# Altium integrated library Analog Devices RF IF Timing ICs and Clocks.IntLib: 168 symbols (part 10 of 18)
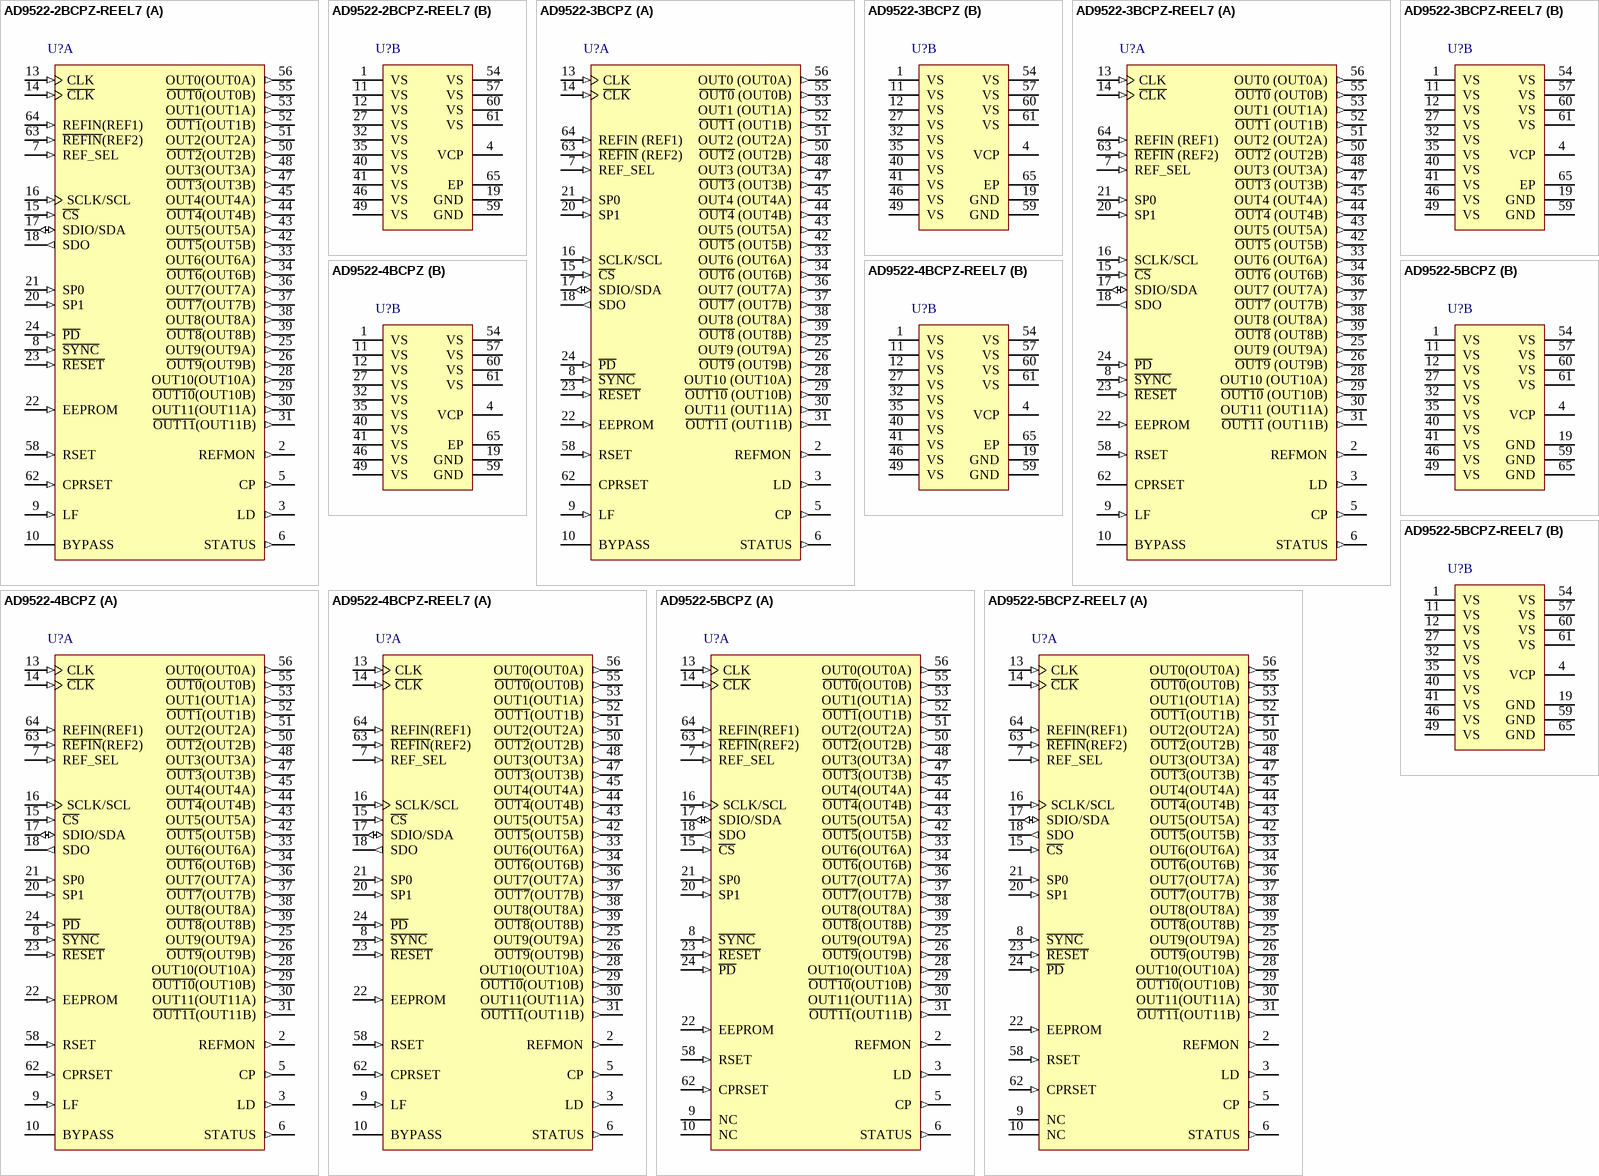
[diagram p24: symbols AD9522-2BCPZ-REEL7 to AD9522-5BCPZ-REEL7]

## AD9522-3BCPZ-REEL7
designator U?
12 LVDS/24 CMOS Output Clock Generator with Integrated 2 GHz VCO, CP-64-4, Pb-Free, 750 Reel; Product Description: Multi-Output Clock Generator; +Supply Voltage (V): 3.3; Inputs: 1; Outputs: 12; Dividers: 5; On-Chip VCO or DCO: Yes; Max f-out (MHz): 2250; Output Logic: CMOS; LVPECL; DatasheetVersion: Rev. 0; PackageVersion: 051007-C; PackageReference: CP-64-4; PackageDescription: 64-Lead Lead Frame Chip Scale Package [LFCSP_VQ]; Code_JEDEC: MO-220-VMMD-4; ComponentLink1Description: Manufacturer URL; ComponentLink1URL: www.analog.com; ComponentLink2Description: Datasheet; ComponentLink2URL: http://www.analog.com/static/imported-files/data_sheets/AD9522-3.pdf; ComponentLink3Description: Package Specification; ComponentLink3URL: http://www.analog.com/static/imported-files/packages/PKG_PDF/LFCSP(CP)/CP_64_4.pdf
footprint ADI-CP-64-4_N (QFN, 64-Leads, Body 9x9mm, Pitch 0.5mm, Thermal Pad 6.2x6.2mm, IPC Medium Density)
footprint ADI-CP-64-4_L (QFN, 64-Leads, Body 9x9mm, Pitch 0.5mm, Thermal Pad 6.2x6.2mm, IPC High Density)
footprint ADI-CP-64-4_M (QFN, 64-Leads, Body 9x9mm, Pitch 0.5mm, Thermal Pad 6.2x6.2mm, IPC Low Density)
part A pins: 2 REFMON (out) "Reference Monitor (Output). This pin has multiple selectable outputs.", 3 LD (out) "Lock Detect (Output). This pin has multiple selectable outputs.", 5 CP (out) "Charge Pump (Output). This pin connects to an external loop filter. This pin can be left unconnected if the PLL is not used.", 6 STATUS (out) "Programmable Status Output.", 7 REF_SEL (in) "Reference Select. It selects REF1 (low) or REF2 (high). This pin has an internal 30 K ohm pull-down resistor.", 8 ~{SYNC} (in) "Manual Synchronizations and Manual Holdover. This pin initiates a manual synchronization and is used for manual holdover. Active low. This pin has an internal 30 K ohm pull-up resistor.", 9 LF (in) "Loop Filter (Input). It connects internally to the VCO control voltage node.", 10 BYPASS "This pin is for bypassing the LDO to ground with a 220 nF capacitor. This pin can be left unconnected if the PLL is not used.", 13 CLK (in) "Along with C\L\K\, this pin is the differential input for the clock distribution section.", 14 ~{CLK} (in) "Along with CLK, this pin is the differential input for the clock distribution section. If a single-ended input is connected to the CLK pin, connect a 0.1 uF bypass capacitor from this pin to ground.", 15 ~{CS} (in) "Serial Control Port Chip Select; Active Low. This pin has an internal 30 K ohm pull-up resistor.", 16 SCLK/SCL (in) "Serial Control Port Clock Signal. This pin has an internal 30 K ohm pull-down resistor in SPI mode but is high impedance in I2C mode.", 17 SDIO/SDA (io) "Serial Control Port Bidirectional Serial Data In/Out.", 18 SDO (out) "Serial Control Port Unidirectional Serial Data Out.", 20 SP1 (in) "Select SPI or I2C as the serial interface port and select the I2C slave address in I2C mode. Three-level logic. This pin is internally biased for the open logic level.", 21 SP0 (in) "Select SPI or I2C as the serial interface port and select the I2C slave address in I2C mode. Three-level logic. This pin is internally biased for the open logic level.", 22 EEPROM (in) "Setting this pin high selects the register values stored in the internal EEPROM to be loaded at reset and/or power-up. [see datasheet]", 23 ~{RESET} (in) "Chip Reset, Active Low. This pin has an internal 30 K ohm pull-up resistor.", 24 ~{PD} (in) "Chip Power-Down, Active Low. This pin has an internal 30 K ohm pull-up resistor.", 25 OUT9 (OUT9A) (out) "Clock Output. This pin can be configured as one side of a differential LVDS outputor as a single-ended CMOS output.", 26 ~{OUT9} (OUT9B) (out) "Clock Output. This pin can be configured as one side of a differential LVDS outputor as a single-ended CMOS output.", 28 OUT10 (OUT10A) (out) "Clock Output. This pin can be configured as one side of a differential LVDS outputor as a single-ended CMOS output.", 29 ~{OUT10} (OUT10B) (out) "Clock Output. This pin can be configured as one side of a differential LVDS outputor as a single-ended CMOS output.", 30 OUT11 (OUT11A) (out) "Clock Output. This pin can be configured as one side of a differential LVDS outputor as a single-ended CMOS output.", 31 ~{OUT11} (OUT11B) (out) "Clock Output. This pin can be configured as one side of a differential LVDS outputor as a single-ended CMOS output.", 33 OUT6 (OUT6A) (out) "Clock Output. This pin can be configured as one side of a differential LVDS outputor as a single-ended CMOS output.", 34 ~{OUT6} (OUT6B) (out) "Clock Output. This pin can be configured as one side of a differential LVDS outputor as a single-ended CMOS output.", 36 OUT7 (OUT7A) (out) "Clock Output. This pin can be configured as one side of a differential LVDS outputor as a single-ended CMOS output.", 37 ~{OUT7} (OUT7B) (out) "Clock Output. This pin can be configured as one side of a differential LVDS outputor as a single-ended CMOS output.", 38 OUT8 (OUT8A) (out) "Clock Output. This pin can be configured as one side of a differential LVDS outputor as a single-ended CMOS output.", 39 ~{OUT8} (OUT8B) (out) "Clock Output. This pin can be configured as one side of a differential LVDS outputor as a single-ended CMOS output.", 42 ~{OUT5} (OUT5B) (out) "Clock Output. This pin can be configured as one side of a differential LVDS outputor as a single-ended CMOS output.", 43 OUT5 (OUT5A) (out) "Clock Output. This pin can be configured as one side of a differential LVDS outputor as a single-ended CMOS output.", 44 ~{OUT4} (OUT4B) (out) "Clock Output. This pin can be configured as one side of a differential LVDS outputor as a single-ended CMOS output.", 45 OUT4 (OUT4A) (out) "Clock Output. This pin can be configured as one side of a differential LVDS outputor as a single-ended CMOS output.", 47 ~{OUT3} (OUT3B) (out) "Clock Output. This pin can be configured as one side of a differential LVDS outputor as a single-ended CMOS output.", 48 OUT3 (OUT3A) (out) "Clock Output. This pin can be configured as one side of a differential LVDS outputor as a single-ended CMOS output.", 50 ~{OUT2} (OUT2B) (out) "Clock Output. This pin can be configured as one side of a differential LVDS outputor as a single-ended CMOS output.", 51 OUT2 (OUT2A) (out) "Clock Output. This pin can be configured as one side of a differential LVDS outputor as a single-ended CMOS output.", 52 ~{OUT1} (OUT1B) (out) "Clock Output. This pin can be configured as one side of a differential LVDS outputor as a single-ended CMOS output.", 53 OUT1 (OUT1A) (out) "Clock Output. This pin can be configured as one side of a differential LVDS outputor as a single-ended CMOS output.", 55 ~{OUT0} (OUT0B) (out) "Clock Output. This pin can be configured as one side of a differential LVDS outputor as a single-ended CMOS output.", 56 OUT0 (OUT0A) (out) "Clock Output. This pin can be configured as one side of a differential LVDS outputor as a single-ended CMOS output.", 58 RSET (in) "Clock Distribution Current Set Resistor. Connect a 4.12 K ohm resistor from this pin to GND.", 62 CPRSET "Charge Pump Current Set Resistor. Connect a 5.1 K ohm resistor from this pin to GND.This resistor can be omitted if the PLL is not used.", 63 ~{REFIN} (REF2) (in) "Along with REFIN, this is the differential input for the PLL reference. Alternatively, this pin is a single-ended input for REF2.", 64 REFIN (REF1) (in) "Along with REFIN, this is the differential input for the PLL reference. Alternatively, this pin is a single-ended input for REF1."
part B pins: 1 VS (power) "3.3 V Power Pins.", 4 VCP (power) "Power Supply for Charge Pump (CP); VS < VCP < 5.0 V. VCP must still be connected to 3.3 V if the PLL is not used.", 11 VS (power) "3.3 V Power Pins.", 12 VS (power) "3.3 V Power Pins.", 19 GND (power) "Ground Pins.", 27 VS (power) "3.3 V Power Pins.", 32 VS (power) "3.3 V Power Pins.", 35 VS (power) "3.3 V Power Pins.", 40 VS (power) "3.3 V Power Pins.", 41 VS (power) "3.3 V Power Pins.", 46 VS (power) "3.3 V Power Pins.", 49 VS (power) "3.3 V Power Pins.", 54 VS (power) "3.3 V Power Pins.", 57 VS (power) "3.3 V Power Pins.", 59 GND (power) "Ground Pins.", 60 VS (power) "3.3 V Power Pins.", 61 VS (power) "3.3 V Power Pins.", 65 EP (power) "The exposed die pad must be connected to GND."

## AD9522-4BCPZ
designator U?
12 LVDS/24 CMOS Output Clock Generator with Integrated 1.6 GHz VCO, CP-64-4, Pb-Free, 260 Tray; Product Description: Multi-Output Clock Generator; +Supply Voltage (V): 3.3; Inputs: 1; Outputs: 12; Dividers: 5; On-Chip VCO or DCO: Yes; Max f-out (MHz): 1600; Output Logic: CMOS; LVDS; DatasheetVersion: Rev. 0; PackageVersion: 051007-C; PackageReference: CP-64-4; PackageDescription: 64-Lead Lead Frame Chip Scale Package [LFCSP_VQ]; Code_JEDEC: MO-220-VMMD-4; ComponentLink1Description: Manufacturer URL; ComponentLink1URL: www.analog.com; ComponentLink2Description: Datasheet; ComponentLink2URL: http://www.analog.com/static/imported-files/data_sheets/AD9522-4.pdf; ComponentLink3Description: Package Specification; ComponentLink3URL: http://www.analog.com/static/imported-files/packages/PKG_PDF/LFCSP(CP)/CP_64_4.pdf
footprint ADI-CP-64-4_N (QFN, 64-Leads, Body 9x9mm, Pitch 0.5mm, Thermal Pad 6.2x6.2mm, IPC Medium Density)
footprint ADI-CP-64-4_L (QFN, 64-Leads, Body 9x9mm, Pitch 0.5mm, Thermal Pad 6.2x6.2mm, IPC High Density)
footprint ADI-CP-64-4_M (QFN, 64-Leads, Body 9x9mm, Pitch 0.5mm, Thermal Pad 6.2x6.2mm, IPC Low Density)
part A pins: 2 REFMON (out) "Reference Monitor (Output). This pin has multiple selectable outputs", 3 LD (out) "Lock Detect (Output). This pin has multiple selectable outputs.", 5 CP (out) "Charge Pump (Output). This pin connects to an external loop filter. This pin can be left unconnected if the PLL is not used.", 6 STATUS (out) "Programmable Status Output.", 7 REF_SEL (in) "Reference Select. It selects REF1 (low) or REF2 (high). This pin has an internal 30 K ohm pull-down resistor", 8 ~{SYNC} (in) "Manual Synchronizations and Manual Holdover. This pin initiates a manual synchronization and is used for manual holdover. Active low. This pin has an internal 30 K ohm pull-up resistor.", 9 LF (in) "Loop Filter (Input). It connects internally to the VCO control voltage node.", 10 BYPASS "This pin is for bypassing the LDO to ground with a 220 nF capacitor. This pin can be left unconnected if the PLL is not used.", 13 CLK (in) "Along with C\L\K\, this pin is the differential input for the clock distribution section.", 14 ~{CLK} (in) "Along with CLK, this pin is the differential input for the clock distribution section. If a single-ended input is connected to the CLK pin, connect a 0.1 uF bypass capacitor from this pin to ground.", 15 ~{CS} (in) "Serial Control Port Chip Select; Active Low. This pin has an internal 30 K ohm pull-up resistor.", 16 SCLK/SCL (in) "Serial Control Port Clock Signal. This pin has an internal 30 K ohm pull-down resistor in SPI mode but is high impedance in I2C mode", 17 SDIO/SDA (io) "Serial Control Port Bidirectional Serial Data In/Out", 18 SDO (out) "Serial Control Port Unidirectional Serial Data Out.", 20 SP1 (in) "Select SPI or I2C as the serial interface port and select the I2C slave address in I2C mode. Three-level logic. This pin is internally biased for the open logic level.", 21 SP0 (in) "Select SPI or I2C as the serial interface port and select the I2C slave address in I2C mode. Three-level logic. This pin is internally biased for the open logic level.", 22 EEPROM (in) "Setting this pin high selects the register values stored in the internal EEPROM to be loaded at reset and/or power-up. Setting this pin low causes the AD9522 to load the hard-coded default register values at power-up/reset. This pin has an internal 30 oh", 23 ~{RESET} (in) "Chip Reset, Active Low. This pin has an internal 30 K ohm pull-up resistor.", 24 ~{PD} (in) "Chip Power-Down, Active Low. This pin has an internal 30 K ohm pull-up resistor.", 25 OUT9(OUT9A) (out) "Clock Output. This pin can be configured as one side of a differential LVDS outputor as a single-ended CMOS output.", 26 ~{OUT9}(OUT9B) (out) "Clock Output. This pin can be configured as one side of a differential LVDS outputor as a single-ended CMOS output.", 28 OUT10(OUT10A) (out) "Clock Output. This pin can be configured as one side of a differential LVDS outputor as a single-ended CMOS output.", 29 ~{OUT10}(OUT10B) (out) "Clock Output. This pin can be configured as one side of a differential LVDS outputor as a single-ended CMOS output.", 30 OUT11(OUT11A) (out) "Clock Output. This pin can be configured as one side of a differential LVDS outputor as a single-ended CMOS output.", 31 ~{OUT11}(OUT11B) (out) "Clock Output. This pin can be configured as one side of a differential LVDS outputor as a single-ended CMOS output.", 33 OUT6(OUT6A) (out) "Clock Output. This pin can be configured as one side of a differential LVDS outputor as a single-ended CMOS output.", 34 ~{OUT6}(OUT6B) (out) "Clock Output. This pin can be configured as one side of a differential LVDS outputor as a single-ended CMOS output.", 36 OUT7(OUT7A) (out) "Clock Output. This pin can be configured as one side of a differential LVDS outputor as a single-ended CMOS output.", 37 ~{OUT7}(OUT7B) (out) "Clock Output. This pin can be configured as one side of a differential LVDS outputor as a single-ended CMOS output.", 38 OUT8(OUT8A) (out) "Clock Output. This pin can be configured as one side of a differential LVDS outputor as a single-ended CMOS output.", 39 ~{OUT8}(OUT8B) (out) "Clock Output. This pin can be configured as one side of a differential LVDS outputor as a single-ended CMOS output.", 42 ~{OUT5}(OUT5B) (out) "Clock Output. This pin can be configured as one side of a differential LVDS outputor as a single-ended CMOS output.", 43 OUT5(OUT5A) (out) "Clock Output. This pin can be configured as one side of a differential LVDS outputor as a single-ended CMOS output.", 44 ~{OUT4}(OUT4B) (out) "Clock Output. This pin can be configured as one side of a differential LVDS outputor as a single-ended CMOS output.", 45 OUT4(OUT4A) (out) "Clock Output. This pin can be configured as one side of a differential LVDS outputor as a single-ended CMOS output.", 47 ~{OUT3}(OUT3B) (out) "Clock Output. This pin can be configured as one side of a differential LVDS outputor as a single-ended CMOS output.", 48 OUT3(OUT3A) (out) "Clock Output. This pin can be configured as one side of a differential LVDS outputor as a single-ended CMOS output.", 50 ~{OUT2}(OUT2B) (out) "Clock Output. This pin can be configured as one side of a differential LVDS outputor as a single-ended CMOS output.", 51 OUT2(OUT2A) (out) "Clock Output. This pin can be configured as one side of a differential LVDS outputor as a single-ended CMOS output.", 52 ~{OUT1}(OUT1B) (out) "Clock Output. This pin can be configured as one side of a differential LVDS outputor as a single-ended CMOS output.", 53 OUT1(OUT1A) (out) "Clock Output. This pin can be configured as one side of a differential LVDS outputor as a single-ended CMOS output.", 55 ~{OUT0}(OUT0B) (out) "Clock Output. This pin can be configured as one side of a differential LVDS outputor as a single-ended CMOS output.", 56 OUT0(OUT0A) (out) "Clock Output. This pin can be configured as one side of a differential LVDS outputor as a single-ended CMOS output.", 58 RSET (in) "Clock Distribution Current Set Resistor. Connect a 4.12 K ohm resistor from this pin to GND.", 62 CPRSET (in) "Charge Pump Current Set Resistor. Connect a 5.1 K ohm resistor from this pin to GND.This resistor can be omitted if the PLL is not used.", 63 ~{REFIN}(REF2) (in) "Along with REFIN, this is the differential input for the PLL reference. Alternatively, this pin is a single-ended input for REF2.", 64 REFIN(REF1) (in) "Along with R\E\F\I\N\, this is the differential input for the PLL reference. Alternatively, this pin is a single-ended input for REF1."
part B pins: 1 VS (power) "3.3 V Power Pins.", 4 VCP (power) "Power Supply for Charge Pump (CP); VS < VCP < 5.0 V. VCP must still be connected to 3.3 V if the PLL is not used", 11 VS (power) "3.3 V Power Pins.", 12 VS (power) "3.3 V Power Pins.", 19 GND (power) "Ground Pins.", 27 VS (power) "3.3 V Power Pins.", 32 VS (power) "3.3 V Power Pins.", 35 VS (power) "3.3 V Power Pins.", 40 VS (power) "3.3 V Power Pins.", 41 VS (power) "3.3 V Power Pins.", 46 VS (power) "3.3 V Power Pins.", 49 VS (power) "3.3 V Power Pins.", 54 VS (power) "3.3 V Power Pins.", 57 VS (power) "3.3 V Power Pins.", 59 GND (power) "Ground Pins.", 60 VS (power) "3.3 V Power Pins.", 61 VS (power) "3.3 V Power Pins.", 65 EP (power) "The exposed die pad must be connected to GND."

## AD9522-4BCPZ-REEL7
designator U?
12 LVDS/24 CMOS Output Clock Generator with Integrated 1.6 GHz VCO, CP-64-4, Pb-Free, 750 Reel; Product Description: Multi-Output Clock Generator; +Supply Voltage (V): 3.3; Inputs: 1; Outputs: 12; Dividers: 5; On-Chip VCO or DCO: Yes; Max f-out (MHz): 1600; Output Logic: CMOS; LVDS; DatasheetVersion: Rev. 0; PackageVersion: 051007-C; PackageReference: CP-64-4; PackageDescription: 64-Lead Lead Frame Chip Scale Package [LFCSP_VQ]; Code_JEDEC: MO-220-VMMD-4; ComponentLink1Description: Manufacturer URL; ComponentLink1URL: www.analog.com; ComponentLink2Description: Datasheet; ComponentLink2URL: http://www.analog.com/static/imported-files/data_sheets/AD9522-4.pdf; ComponentLink3Description: Package Specification; ComponentLink3URL: http://www.analog.com/static/imported-files/packages/PKG_PDF/LFCSP(CP)/CP_64_4.pdf
footprint ADI-CP-64-4_N (QFN, 64-Leads, Body 9x9mm, Pitch 0.5mm, Thermal Pad 6.2x6.2mm, IPC Medium Density)
footprint ADI-CP-64-4_L (QFN, 64-Leads, Body 9x9mm, Pitch 0.5mm, Thermal Pad 6.2x6.2mm, IPC High Density)
footprint ADI-CP-64-4_M (QFN, 64-Leads, Body 9x9mm, Pitch 0.5mm, Thermal Pad 6.2x6.2mm, IPC Low Density)
part A pins: 2 REFMON (out) "Reference Monitor (Output). This pin has multiple selectable outputs", 3 LD (out) "Lock Detect (Output). This pin has multiple selectable outputs.", 5 CP (out) "Charge Pump (Output). This pin connects to an external loop filter. This pin can be left unconnected if the PLL is not used.", 6 STATUS (out) "Programmable Status Output.", 7 REF_SEL (in) "Reference Select. It selects REF1 (low) or REF2 (high). This pin has an internal 30 K ohm pull-down resistor", 8 ~{SYNC} (in) "Manual Synchronizations and Manual Holdover. This pin initiates a manual synchronization and is used for manual holdover. Active low. This pin has an internal 30 K ohm pull-up resistor.", 9 LF (in) "Loop Filter (Input). It connects internally to the VCO control voltage node.", 10 BYPASS "This pin is for bypassing the LDO to ground with a 220 nF capacitor. This pin can be left unconnected if the PLL is not used.", 13 CLK (in) "Along with C\L\K\, this pin is the differential input for the clock distribution section.", 14 ~{CLK} (in) "Along with CLK, this pin is the differential input for the clock distribution section. If a single-ended input is connected to the CLK pin, connect a 0.1 uF bypass capacitor from this pin to ground.", 15 ~{CS} (in) "Serial Control Port Chip Select; Active Low. This pin has an internal 30 K ohm pull-up resistor.", 16 SCLK/SCL (in) "Serial Control Port Clock Signal. This pin has an internal 30 K ohm pull-down resistor in SPI mode but is high impedance in I2C mode", 17 SDIO/SDA (io) "Serial Control Port Bidirectional Serial Data In/Out", 18 SDO (out) "Serial Control Port Unidirectional Serial Data Out.", 20 SP1 (in) "Select SPI or I2C as the serial interface port and select the I2C slave address in I2C mode. Three-level logic. This pin is internally biased for the open logic level.", 21 SP0 (in) "Select SPI or I2C as the serial interface port and select the I2C slave address in I2C mode. Three-level logic. This pin is internally biased for the open logic level.", 22 EEPROM (in) "Setting this pin high selects the register values stored in the internal EEPROM to be loaded at reset and/or power-up. Setting this pin low causes the AD9522 to load the hard-coded default register values at power-up/reset. This pin has an internal 30 oh", 23 ~{RESET} (in) "Chip Reset, Active Low. This pin has an internal 30 K ohm pull-up resistor.", 24 ~{PD} (in) "Chip Power-Down, Active Low. This pin has an internal 30 K ohm pull-up resistor.", 25 OUT9(OUT9A) (out) "Clock Output. This pin can be configured as one side of a differential LVDS outputor as a single-ended CMOS output.", 26 ~{OUT9}(OUT9B) (out) "Clock Output. This pin can be configured as one side of a differential LVDS outputor as a single-ended CMOS output.", 28 OUT10(OUT10A) (out) "Clock Output. This pin can be configured as one side of a differential LVDS outputor as a single-ended CMOS output.", 29 ~{OUT10}(OUT10B) (out) "Clock Output. This pin can be configured as one side of a differential LVDS outputor as a single-ended CMOS output.", 30 OUT11(OUT11A) (out) "Clock Output. This pin can be configured as one side of a differential LVDS outputor as a single-ended CMOS output.", 31 ~{OUT11}(OUT11B) (out) "Clock Output. This pin can be configured as one side of a differential LVDS outputor as a single-ended CMOS output.", 33 OUT6(OUT6A) (out) "Clock Output. This pin can be configured as one side of a differential LVDS outputor as a single-ended CMOS output.", 34 ~{OUT6}(OUT6B) (out) "Clock Output. This pin can be configured as one side of a differential LVDS outputor as a single-ended CMOS output.", 36 OUT7(OUT7A) (out) "Clock Output. This pin can be configured as one side of a differential LVDS outputor as a single-ended CMOS output.", 37 ~{OUT7}(OUT7B) (out) "Clock Output. This pin can be configured as one side of a differential LVDS outputor as a single-ended CMOS output.", 38 OUT8(OUT8A) (out) "Clock Output. This pin can be configured as one side of a differential LVDS outputor as a single-ended CMOS output.", 39 ~{OUT8}(OUT8B) (out) "Clock Output. This pin can be configured as one side of a differential LVDS outputor as a single-ended CMOS output.", 42 ~{OUT5}(OUT5B) (out) "Clock Output. This pin can be configured as one side of a differential LVDS outputor as a single-ended CMOS output.", 43 OUT5(OUT5A) (out) "Clock Output. This pin can be configured as one side of a differential LVDS outputor as a single-ended CMOS output.", 44 ~{OUT4}(OUT4B) (out) "Clock Output. This pin can be configured as one side of a differential LVDS outputor as a single-ended CMOS output.", 45 OUT4(OUT4A) (out) "Clock Output. This pin can be configured as one side of a differential LVDS outputor as a single-ended CMOS output.", 47 ~{OUT3}(OUT3B) (out) "Clock Output. This pin can be configured as one side of a differential LVDS outputor as a single-ended CMOS output.", 48 OUT3(OUT3A) (out) "Clock Output. This pin can be configured as one side of a differential LVDS outputor as a single-ended CMOS output.", 50 ~{OUT2}(OUT2B) (out) "Clock Output. This pin can be configured as one side of a differential LVDS outputor as a single-ended CMOS output.", 51 OUT2(OUT2A) (out) "Clock Output. This pin can be configured as one side of a differential LVDS outputor as a single-ended CMOS output.", 52 ~{OUT1}(OUT1B) (out) "Clock Output. This pin can be configured as one side of a differential LVDS outputor as a single-ended CMOS output.", 53 OUT1(OUT1A) (out) "Clock Output. This pin can be configured as one side of a differential LVDS outputor as a single-ended CMOS output.", 55 ~{OUT0}(OUT0B) (out) "Clock Output. This pin can be configured as one side of a differential LVDS outputor as a single-ended CMOS output.", 56 OUT0(OUT0A) (out) "Clock Output. This pin can be configured as one side of a differential LVDS outputor as a single-ended CMOS output.", 58 RSET (in) "Clock Distribution Current Set Resistor. Connect a 4.12 K ohm resistor from this pin to GND.", 62 CPRSET (in) "Charge Pump Current Set Resistor. Connect a 5.1 K ohm resistor from this pin to GND.This resistor can be omitted if the PLL is not used.", 63 ~{REFIN}(REF2) (in) "Along with REFIN, this is the differential input for the PLL reference. Alternatively, this pin is a single-ended input for REF2.", 64 REFIN(REF1) (in) "Along with R\E\F\I\N\, this is the differential input for the PLL reference. Alternatively, this pin is a single-ended input for REF1."
part B pins: 1 VS (power) "3.3 V Power Pins.", 4 VCP (power) "Power Supply for Charge Pump (CP); VS < VCP < 5.0 V. VCP must still be connected to 3.3 V if the PLL is not used", 11 VS (power) "3.3 V Power Pins.", 12 VS (power) "3.3 V Power Pins.", 19 GND (power) "Ground Pins.", 27 VS (power) "3.3 V Power Pins.", 32 VS (power) "3.3 V Power Pins.", 35 VS (power) "3.3 V Power Pins.", 40 VS (power) "3.3 V Power Pins.", 41 VS (power) "3.3 V Power Pins.", 46 VS (power) "3.3 V Power Pins.", 49 VS (power) "3.3 V Power Pins.", 54 VS (power) "3.3 V Power Pins.", 57 VS (power) "3.3 V Power Pins.", 59 GND (power) "Ground Pins.", 60 VS (power) "3.3 V Power Pins.", 61 VS (power) "3.3 V Power Pins.", 65 EP (power) "The exposed die pad must be connected to GND."

## AD9522-5BCPZ
designator U?
12 LVDS/24 CMOS Output Clock Generator, CP-64-4, Pb-Free, 260 Tray; Product Description: Multi-Output Clcok Generator; +Supply Voltage (V): 3.3; Inputs: 1; Outputs: 12; Dividers: 5; On-Chip VCO or DCO: No; Max f-out (MHz): 2400; Output Logic: CMOS; LVDS; LVPECL; DatasheetVersion: Rev. 0; PackageVersion: 051007-C; PackageReference: CP-64-4; PackageDescription: 64-Lead Lead Frame Chip Scale Package [LFCSP_VQ]; Code_JEDEC: MO-220-VMMD-4; ComponentLink1Description: Manufacturer URL; ComponentLink1URL: www.analog.com; ComponentLink2Description: Datasheet; ComponentLink2URL: http://www.analog.com/static/imported-files/data_sheets/AD9522-5.pdf; ComponentLink3Description: Package Specification; ComponentLink3URL: http://www.analog.com/static/imported-files/packages/PKG_PDF/LFCSP(CP)/CP_64_4.pdf
footprint ADI-CP-64-4_N (QFN, 64-Leads, Body 9x9mm, Pitch 0.5mm, Thermal Pad 6.2x6.2mm, IPC Medium Density)
footprint ADI-CP-64-4_L (QFN, 64-Leads, Body 9x9mm, Pitch 0.5mm, Thermal Pad 6.2x6.2mm, IPC High Density)
footprint ADI-CP-64-4_M (QFN, 64-Leads, Body 9x9mm, Pitch 0.5mm, Thermal Pad 6.2x6.2mm, IPC Low Density)
part A pins: 2 REFMON (out) "Reference Monitor (Output). This pin has multiple selectable outputs.", 3 LD (out) "Lock Detect (Output). This pin has multiple selectable outputs.", 5 CP (out) "Charge Pump (Output). This pin connects to an external loop filter. This pin can be left unconnected if the PLL is not used.", 6 STATUS (out) "Programmable Status Output.", 7 REF_SEL (in) "Reference Select. It selects REF1 (low) or REF2 (high). This pin has an internal 30 K ohm pull-down resistor.", 8 ~{SYNC} (in) "Manual Synchronizations and Manual Holdover. This pin initiates a manual synchronization and is used for manual holdover. Active low. This pin has an internal 30 K ohm pull-up resistor.", 9 NC "No Connect. These pins can be left floating.", 10 NC "No Connect. These pins can be left floating.", 13 CLK (in) "Along with C\L\K\, this pin is the differential input for the clock distribution section.", 14 ~{CLK} (in) "Along with CLK, this pin is the differential input for the clock distribution section. If a single-ended input is connected to the CLK pin, connect a 0.1 uF bypass capacitor from this pin to ground.", 15 ~{CS} (in) "Serial Control Port Chip Select; Active Low. This pin has an internal 30 K ohm pull-up resistor.", 16 SCLK/SCL (in) "Serial Control Port Clock Signal. This pin has an internal 30 K ohm pull-down resistor in SPI mode but is high impedance in I2C mode.", 17 SDIO/SDA (io) "Serial Control Port Bidirectional Serial Data In/Out.", 18 SDO (out) "Serial Control Port Unidirectional Serial Data Out.", 20 SP1 (in) "Select SPI or I2C as the serial interface port and select the I2C slave address in I2C mode. Three-level logic. This pin is internally biased for the open logic level.", 21 SP0 (in) "Select SPI or I2C as the serial interface port and select the I2C slave address in I2C mode. Three-level logic. This pin is internally biased for the open logic level.", 22 EEPROM (in) "Setting this pin high selects the register values stored in the internal EEPROM to be loaded at reset and/or power-up. [see datasheet]", 23 ~{RESET} (in) "Chip Reset, Active Low. This pin has an internal 30 K ohm pull-up resistor.", 24 ~{PD} (in) "Chip Power-Down, Active Low. This pin has an internal 30 K ohm pull-up resistor.", 25 OUT9(OUT9A) (out) "Clock Output. This pin can be configured as one side of a differential LVDS outputor as a single-ended CMOS output.", 26 ~{OUT9}(OUT9B) (out) "Clock Output. This pin can be configured as one side of a differential LVDS outputor as a single-ended CMOS output.", 28 OUT10(OUT10A) (out) "Clock Output. This pin can be configured as one side of a differential LVDS outputor as a single-ended CMOS output.", 29 ~{OUT10}(OUT10B) (out) "Clock Output. This pin can be configured as one side of a differential LVDS outputor as a single-ended CMOS output.", 30 OUT11(OUT11A) (out) "Clock Output. This pin can be configured as one side of a differential LVDS outputor as a single-ended CMOS output.", 31 ~{OUT11}(OUT11B) (out) "Clock Output. This pin can be configured as one side of a differential LVDS outputor as a single-ended CMOS output.", 33 OUT6(OUT6A) (out) "Clock Output. This pin can be configured as one side of a differential LVDS outputor as a single-ended CMOS output.", 34 ~{OUT6}(OUT6B) (out) "Clock Output. This pin can be configured as one side of a differential LVDS outputor as a single-ended CMOS output.", 36 OUT7(OUT7A) (out) "Clock Output. This pin can be configured as one side of a differential LVDS outputor as a single-ended CMOS output.", 37 ~{OUT7}(OUT7B) (out) "Clock Output. This pin can be configured as one side of a differential LVDS outputor as a single-ended CMOS output.", 38 OUT8(OUT8A) (out) "Clock Output. This pin can be configured as one side of a differential LVDS outputor as a single-ended CMOS output.", 39 ~{OUT8}(OUT8B) (out) "Clock Output. This pin can be configured as one side of a differential LVDS outputor as a single-ended CMOS output.", 42 ~{OUT5}(OUT5B) (out) "Clock Output. This pin can be configured as one side of a differential LVDS outputor as a single-ended CMOS output.", 43 OUT5(OUT5A) (out) "Clock Output. This pin can be configured as one side of a differential LVDS outputor as a single-ended CMOS output.", 44 ~{OUT4}(OUT4B) (out) "Clock Output. This pin can be configured as one side of a differential LVDS outputor as a single-ended CMOS output.", 45 OUT4(OUT4A) (out) "Clock Output. This pin can be configured as one side of a differential LVDS outputor as a single-ended CMOS output.", 47 ~{OUT3}(OUT3B) (out) "Clock Output. This pin can be configured as one side of a differential LVDS outputor as a single-ended CMOS output.", 48 OUT3(OUT3A) (out) "Clock Output. This pin can be configured as one side of a differential LVDS outputor as a single-ended CMOS output.", 50 ~{OUT2}(OUT2B) (out) "Clock Output. This pin can be configured as one side of a differential LVDS outputor as a single-ended CMOS output.", 51 OUT2(OUT2A) (out) "Clock Output. This pin can be configured as one side of a differential LVDS outputor as a single-ended CMOS output.", 52 ~{OUT1}(OUT1B) (out) "Clock Output. This pin can be configured as one side of a differential LVDS outputor as a single-ended CMOS output.", 53 OUT1(OUT1A) (out) "Clock Output. This pin can be configured as one side of a differential LVDS outputor as a single-ended CMOS output.", 55 ~{OUT0}(OUT0B) (out) "Clock Output. This pin can be configured as one side of a differential LVDS outputor as a single-ended CMOS output.", 56 OUT0(OUT0A) (out) "Clock Output. This pin can be configured as one side of a differential LVDS outputor as a single-ended CMOS output.", 58 RSET (in) "Clock Distribution Current Set Resistor. Connect a 4.12 K ohm resistor from this pin to GND.", 62 CPRSET (in) "Charge Pump Current Set Resistor. Connect a 5.1 K ohm resistor from this pin to GND.This resistor can be omitted if the PLL is not used.", 63 ~{REFIN}(REF2) (in) "Along with REFIN, this is the differential input for the PLL reference. Alternatively, this pin is a single-ended input for REF2.", 64 REFIN(REF1) (in) "Along with R\E\F\I\N\, this is the differential input for the PLL reference. Alternatively, this pin is a single-ended input for REF1."
part B pins: 1 VS (power) "3.3 V Power Pins.", 4 VCP (power) "Power Supply for Charge Pump (CP); VS =< VCP =< 5.25 V. VCP must still be connected to 3.3 V if the PLL is not used.", 11 VS (power) "3.3 V Power Pins.", 12 VS (power) "3.3 V Power Pins.", 19 GND (power) "Ground Pins.", 27 VS (power) "3.3 V Power Pins.", 32 VS (power) "3.3 V Power Pins.", 35 VS (power) "3.3 V Power Pins.", 40 VS (power) "3.3 V Power Pins.", 41 VS (power) "3.3 V Power Pins.", 46 VS (power) "3.3 V Power Pins.", 49 VS (power) "3.3 V Power Pins.", 54 VS (power) "3.3 V Power Pins.", 57 VS (power) "3.3 V Power Pins.", 59 GND (power) "Ground Pins.", 60 VS (power) "3.3 V Power Pins.", 61 VS (power) "3.3 V Power Pins.", 65 GND (power) "The exposed die pad must be connected to GND."

## AD9522-5BCPZ-REEL7
designator U?
12 LVDS/24 CMOS Output Clock Generator, CP-64-4, Pb-Free, 750 Reel; Product Description: Multi-Output Clcok Generator; +Supply Voltage (V): 3.3; Inputs: 1; Outputs: 12; Dividers: 5; On-Chip VCO or DCO: No; Max f-out (MHz): 2400; Output Logic: CMOS; LVDS; LVPECL; DatasheetVersion: Rev. 0; PackageVersion: 051007-C; PackageReference: CP-64-4; PackageDescription: 64-Lead Lead Frame Chip Scale Package [LFCSP_VQ]; Code_JEDEC: MO-220-VMMD-4; ComponentLink1Description: Manufacturer URL; ComponentLink1URL: www.analog.com; ComponentLink2Description: Datasheet; ComponentLink2URL: http://www.analog.com/static/imported-files/data_sheets/AD9522-5.pdf; ComponentLink3Description: Package Specification; ComponentLink3URL: http://www.analog.com/static/imported-files/packages/PKG_PDF/LFCSP(CP)/CP_64_4.pdf
footprint ADI-CP-64-4_N (QFN, 64-Leads, Body 9x9mm, Pitch 0.5mm, Thermal Pad 6.2x6.2mm, IPC Medium Density)
footprint ADI-CP-64-4_L (QFN, 64-Leads, Body 9x9mm, Pitch 0.5mm, Thermal Pad 6.2x6.2mm, IPC High Density)
footprint ADI-CP-64-4_M (QFN, 64-Leads, Body 9x9mm, Pitch 0.5mm, Thermal Pad 6.2x6.2mm, IPC Low Density)
part A pins: 2 REFMON (out) "Reference Monitor (Output). This pin has multiple selectable outputs.", 3 LD (out) "Lock Detect (Output). This pin has multiple selectable outputs.", 5 CP (out) "Charge Pump (Output). This pin connects to an external loop filter. This pin can be left unconnected if the PLL is not used.", 6 STATUS (out) "Programmable Status Output.", 7 REF_SEL (in) "Reference Select. It selects REF1 (low) or REF2 (high). This pin has an internal 30 K ohm pull-down resistor.", 8 ~{SYNC} (in) "Manual Synchronizations and Manual Holdover. This pin initiates a manual synchronization and is used for manual holdover. Active low. This pin has an internal 30 K ohm pull-up resistor.", 9 NC "No Connect. These pins can be left floating.", 10 NC "No Connect. These pins can be left floating.", 13 CLK (in) "Along with C\L\K\, this pin is the differential input for the clock distribution section.", 14 ~{CLK} (in) "Along with CLK, this pin is the differential input for the clock distribution section. If a single-ended input is connected to the CLK pin, connect a 0.1 uF bypass capacitor from this pin to ground.", 15 ~{CS} (in) "Serial Control Port Chip Select; Active Low. This pin has an internal 30 K ohm pull-up resistor.", 16 SCLK/SCL (in) "Serial Control Port Clock Signal. This pin has an internal 30 K ohm pull-down resistor in SPI mode but is high impedance in I2C mode.", 17 SDIO/SDA (io) "Serial Control Port Bidirectional Serial Data In/Out.", 18 SDO (out) "Serial Control Port Unidirectional Serial Data Out.", 20 SP1 (in) "Select SPI or I2C as the serial interface port and select the I2C slave address in I2C mode. Three-level logic. This pin is internally biased for the open logic level.", 21 SP0 (in) "Select SPI or I2C as the serial interface port and select the I2C slave address in I2C mode. Three-level logic. This pin is internally biased for the open logic level.", 22 EEPROM (in) "Setting this pin high selects the register values stored in the internal EEPROM to be loaded at reset and/or power-up. [see datasheet]", 23 ~{RESET} (in) "Chip Reset, Active Low. This pin has an internal 30 K ohm pull-up resistor.", 24 ~{PD} (in) "Chip Power-Down, Active Low. This pin has an internal 30 K ohm pull-up resistor.", 25 OUT9(OUT9A) (out) "Clock Output. This pin can be configured as one side of a differential LVDS outputor as a single-ended CMOS output.", 26 ~{OUT9}(OUT9B) (out) "Clock Output. This pin can be configured as one side of a differential LVDS outputor as a single-ended CMOS output.", 28 OUT10(OUT10A) (out) "Clock Output. This pin can be configured as one side of a differential LVDS outputor as a single-ended CMOS output.", 29 ~{OUT10}(OUT10B) (out) "Clock Output. This pin can be configured as one side of a differential LVDS outputor as a single-ended CMOS output.", 30 OUT11(OUT11A) (out) "Clock Output. This pin can be configured as one side of a differential LVDS outputor as a single-ended CMOS output.", 31 ~{OUT11}(OUT11B) (out) "Clock Output. This pin can be configured as one side of a differential LVDS outputor as a single-ended CMOS output.", 33 OUT6(OUT6A) (out) "Clock Output. This pin can be configured as one side of a differential LVDS outputor as a single-ended CMOS output.", 34 ~{OUT6}(OUT6B) (out) "Clock Output. This pin can be configured as one side of a differential LVDS outputor as a single-ended CMOS output.", 36 OUT7(OUT7A) (out) "Clock Output. This pin can be configured as one side of a differential LVDS outputor as a single-ended CMOS output.", 37 ~{OUT7}(OUT7B) (out) "Clock Output. This pin can be configured as one side of a differential LVDS outputor as a single-ended CMOS output.", 38 OUT8(OUT8A) (out) "Clock Output. This pin can be configured as one side of a differential LVDS outputor as a single-ended CMOS output.", 39 ~{OUT8}(OUT8B) (out) "Clock Output. This pin can be configured as one side of a differential LVDS outputor as a single-ended CMOS output.", 42 ~{OUT5}(OUT5B) (out) "Clock Output. This pin can be configured as one side of a differential LVDS outputor as a single-ended CMOS output.", 43 OUT5(OUT5A) (out) "Clock Output. This pin can be configured as one side of a differential LVDS outputor as a single-ended CMOS output.", 44 ~{OUT4}(OUT4B) (out) "Clock Output. This pin can be configured as one side of a differential LVDS outputor as a single-ended CMOS output.", 45 OUT4(OUT4A) (out) "Clock Output. This pin can be configured as one side of a differential LVDS outputor as a single-ended CMOS output.", 47 ~{OUT3}(OUT3B) (out) "Clock Output. This pin can be configured as one side of a differential LVDS outputor as a single-ended CMOS output.", 48 OUT3(OUT3A) (out) "Clock Output. This pin can be configured as one side of a differential LVDS outputor as a single-ended CMOS output.", 50 ~{OUT2}(OUT2B) (out) "Clock Output. This pin can be configured as one side of a differential LVDS outputor as a single-ended CMOS output.", 51 OUT2(OUT2A) (out) "Clock Output. This pin can be configured as one side of a differential LVDS outputor as a single-ended CMOS output.", 52 ~{OUT1}(OUT1B) (out) "Clock Output. This pin can be configured as one side of a differential LVDS outputor as a single-ended CMOS output.", 53 OUT1(OUT1A) (out) "Clock Output. This pin can be configured as one side of a differential LVDS outputor as a single-ended CMOS output.", 55 ~{OUT0}(OUT0B) (out) "Clock Output. This pin can be configured as one side of a differential LVDS outputor as a single-ended CMOS output.", 56 OUT0(OUT0A) (out) "Clock Output. This pin can be configured as one side of a differential LVDS outputor as a single-ended CMOS output.", 58 RSET (in) "Clock Distribution Current Set Resistor. Connect a 4.12 K ohm resistor from this pin to GND.", 62 CPRSET (in) "Charge Pump Current Set Resistor. Connect a 5.1 K ohm resistor from this pin to GND.This resistor can be omitted if the PLL is not used.", 63 ~{REFIN}(REF2) (in) "Along with REFIN, this is the differential input for the PLL reference. Alternatively, this pin is a single-ended input for REF2.", 64 REFIN(REF1) (in) "Along with R\E\F\I\N\, this is the differential input for the PLL reference. Alternatively, this pin is a single-ended input for REF1."
part B pins: 1 VS (power) "3.3 V Power Pins.", 4 VCP (power) "Power Supply for Charge Pump (CP); VS =< VCP =< 5.25 V. VCP must still be connected to 3.3 V if the PLL is not used.", 11 VS (power) "3.3 V Power Pins.", 12 VS (power) "3.3 V Power Pins.", 19 GND (power) "Ground Pins.", 27 VS (power) "3.3 V Power Pins.", 32 VS (power) "3.3 V Power Pins.", 35 VS (power) "3.3 V Power Pins.", 40 VS (power) "3.3 V Power Pins.", 41 VS (power) "3.3 V Power Pins.", 46 VS (power) "3.3 V Power Pins.", 49 VS (power) "3.3 V Power Pins.", 54 VS (power) "3.3 V Power Pins.", 57 VS (power) "3.3 V Power Pins.", 59 GND (power) "Ground Pins.", 60 VS (power) "3.3 V Power Pins.", 61 VS (power) "3.3 V Power Pins.", 65 GND (power) "The exposed die pad must be connected to GND."

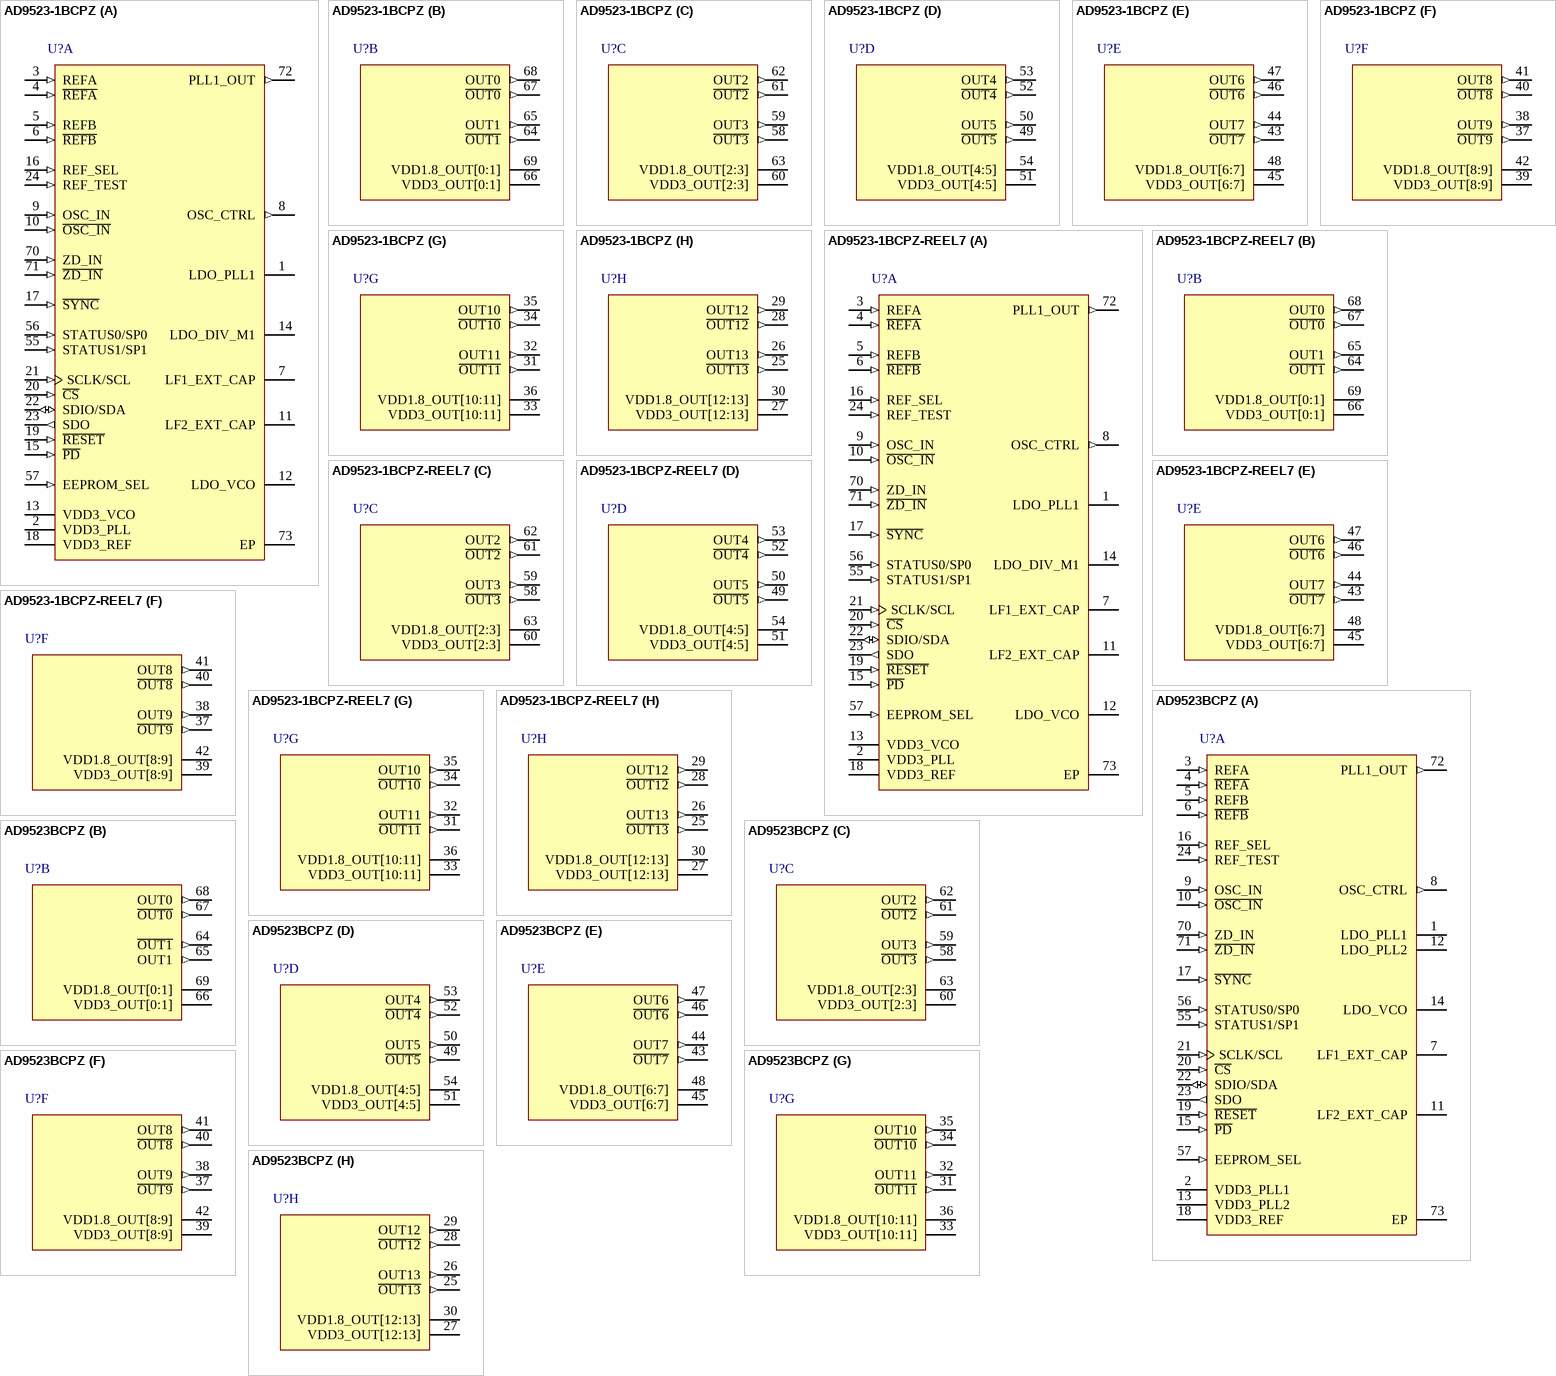
[diagram p8: symbols AD9523-1BCPZ to AD9523BCPZ]